# Altium integrated library TACTB-6x6 SMD.IntLib: 1 symbol
Pins are listed as number, name and electrical type; pins without a type are passive.

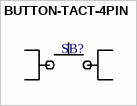
[diagram p0: symbol BUTTON-TACT-4PIN]

## BUTTON-TACT-4PIN
designator SB?
footprint TACTB-6x6
footprint TACTB-6x6 SMD
pins: 1  , 2  , 3  , 4  